# Altium footprint library SIM.PcbLib: 2 footprints
Each footprint in its own frame and in the unit in brackets; x right, y up, seen from the top. Pads: shape width x height; smd on the part's side, far side on the other; paste and mask are expansions set on the pad; w line width, h text height; cw(c..) or ccw(c..) is an arc to the next point about the centre after c.
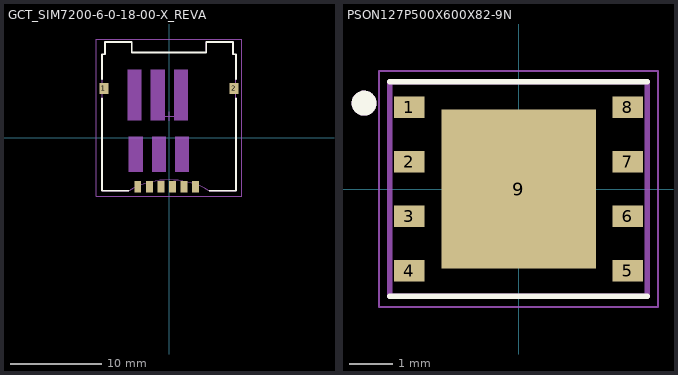
[diagram p0: the footprints below, top view; thin cyan lines are the x and y axes]

## GCT_SIM7200-6-0-18-00-X_REVA [mm]
pads (8):
  rect 1x1.2 smd: 1(-7.15,5.413) 2(7.15,5.413)
  rect 0.75x1.25 smd: C1(-2.16,-5.412) C2(0.38,-5.412) C3(2.92,-5.412) C5(-3.43,-5.412) C6(-0.89,-5.412) C7(1.65,-5.412)
Top Overlay:
  lines w0.2: -7.35,4.338 -7.35,-5.837 -4.42,-5.837 ; -7.35,6.438 -7.35,9.163 -7.025,9.163 -7.025,10.513 -4.095,10.513 -4.095,9.363 4.095,9.363 4.095,10.513 7.025,10.513 7.025,9.163 7.35,9.163 7.35,6.438 ; 4.42,-5.837 7.35,-5.837 7.35,4.338
Top Assembly:
  lines w0.1: -4.42,-5.837 -7.35,-5.837 -7.35,9.163 -7.025,9.163 -7.025,10.513 -4.095,10.513 -4.095,9.363 4.095,9.363 4.095,10.513 7.025,10.513 7.025,9.163 7.35,9.163 7.35,-5.837 4.42,-5.837 ; -4.37,-5.808 cw(c0,-13.378) 4.37,-5.808
Top Component Outline:
  region: -3.03,1.933 -4.53,1.933 -4.53,7.433 -3.03,7.433
  region: -2.9,-3.767 -4.4,-3.767 -4.4,0.123 -2.9,0.123
  region: 2.05,1.933 0.55,1.933 0.55,7.433 2.05,7.433
  region: -0.36,-3.767 -1.86,-3.767 -1.86,0.123 -0.36,0.123
  region: -0.49,1.933 -1.99,1.933 -1.99,7.433 -0.49,7.433
  region: 2.18,-3.767 0.68,-3.767 0.68,0.123 2.18,0.123
  lines w0.05: -8,-6.412 -8,10.838 8,10.838 8,-6.412 -8,-6.412
  lines w0.1: -0.5,2.338 0.5,2.338 ; 0,1.838 0,2.838
3D body "SIM7200-6-0-18-00-A--3DModel-STEP-56544.STEP": height 1.74, standoff -0.01, extent -7.355,-5.823 7.345,10.527

## PSON127P500X600X82-9N [mm]
pads (9):
  rect 0.71x0.51 smd: 1(-2.55,1.905) 2(-2.55,0.635) 3(-2.55,-0.635) 4(-2.55,-1.905) 5(2.55,-1.905) 6(2.55,-0.635) 7(2.55,0.635) 8(2.55,1.905)
  rect 3.6x3.7 smd paste-3: 9(0,0)
Top Overlay:
  circle w0.3: c-3.6,2 r0.141
  lines w0.127: -3,-2.5 3,-2.5 ; -3,2.5 3,2.5
Top Paste:
  region: 1.5,-1.45 0.18,-1.45 0.18,-0.18 1.5,-0.18
  region: -0.18,-1.45 -1.5,-1.45 -1.5,-0.18 -0.18,-0.18
  region: 1.5,0.18 0.18,0.18 0.18,1.45 1.5,1.45
  region: -0.18,0.18 -1.5,0.18 -1.5,1.45 -0.18,1.45
Top Assembly:
  circle w0.3: c-3.6,2 r0.141
  lines w0.127: -3,-2.5 -3,2.5 3,2.5 3,-2.5 -3,-2.5
Top Component Outline:
  lines w0.05: -3.25,-2.75 -3.25,2.75 3.25,2.75 3.25,-2.75 -3.25,-2.75
3D body "SIM-ST-MFF2--3DModel-STEP-56544.STEP": height 0.92, standoff 0.1, extent -3,-2.5 3,2.5